# Altium schematic symbol library Shema1.SchLib: 9 symbols
Pins are listed as number, name and electrical type; pins without a type are passive.

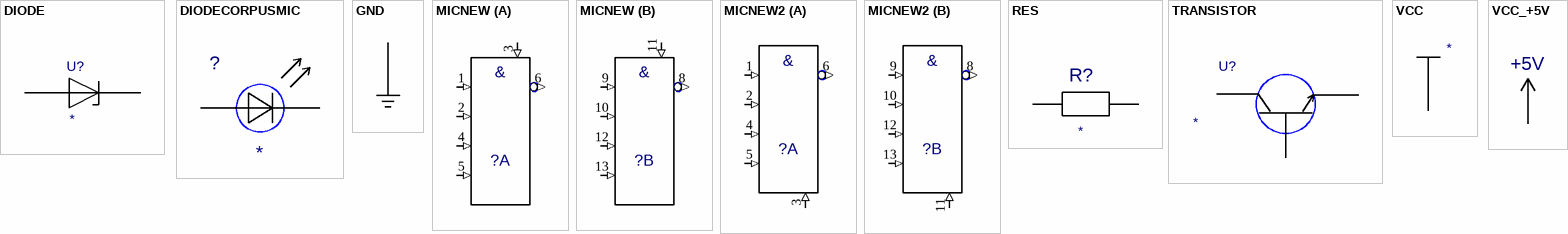
[diagram p0: symbols DIODE to VCC_+5V]

## DIODE
designator U?  (value not drawn)
Value: *
footprint DIODE_CORPUS
pins: 1 0, 2 0

## DIODECORPUSMIC
designator ?  (value not drawn)
Value: *
footprint DIODE_CORPUS
pins: 1 A1, 2 A2

## GND
designator PWR?  (value not drawn)
Value: *
pins: 1 (power)

## MICNEW
designator ?  (value not drawn)
Value: *
footprint DIP14
pins on every part: 7 GND (power) hidden, 14 VCC (power) hidden
part A pins: 1 IN0 (in), 2 IN1 (in), 3 IN6 (in), 4 IN3 (in), 5 IN4 (in), 6 OUT (out)
part B pins: 8 OUT (out), 9 IN0 (in), 10 IN1 (in), 11 IN6 (in), 12 IN3 (in), 13 IN4 (in)
part A text: &
part B text: &

## MICNEW2
designator ?  (value not drawn)
Value: *
footprint DIP14
pins on every part: 7 GND (power) hidden, 14 VCC (power) hidden
part A pins: 1 IN0 (in), 2 IN1 (in), 3 IN6 (in), 4 IN3 (in), 5 IN4 (in), 6 OUT (out)
part B pins: 8 OUT (out), 9 IN0 (in), 10 IN1 (in), 11 IN6 (in), 12 IN3 (in), 13 IN4 (in)
part A text: &
part B text: &

## RES
designator R?  (value not drawn)
Value: *
footprint RES
pins: 1, 2

## TRANSISTOR
designator U?  (value not drawn)
Value: *
footprint TRANSISTOR CORPUS
pins: B, C 0, E

## VCC
designator PWR?  (value not drawn)
Value: *
pins: 1 (power)

## VCC_+5V
designator VCC?  (value not drawn)
Value: *
pins: 1 VCC_+5V (power)
text: +5V